# Altium footprint library DIOM4325X250N.PcbLib: 1 footprints
Each footprint in its own frame and in the unit in brackets; x right, y up, seen from the top. Pads: shape width x height; smd on the part's side, far side on the other; paste and mask are expansions set on the pad; w line width, h text height; cw(c..) or ccw(c..) is an arc to the next point about the centre after c.
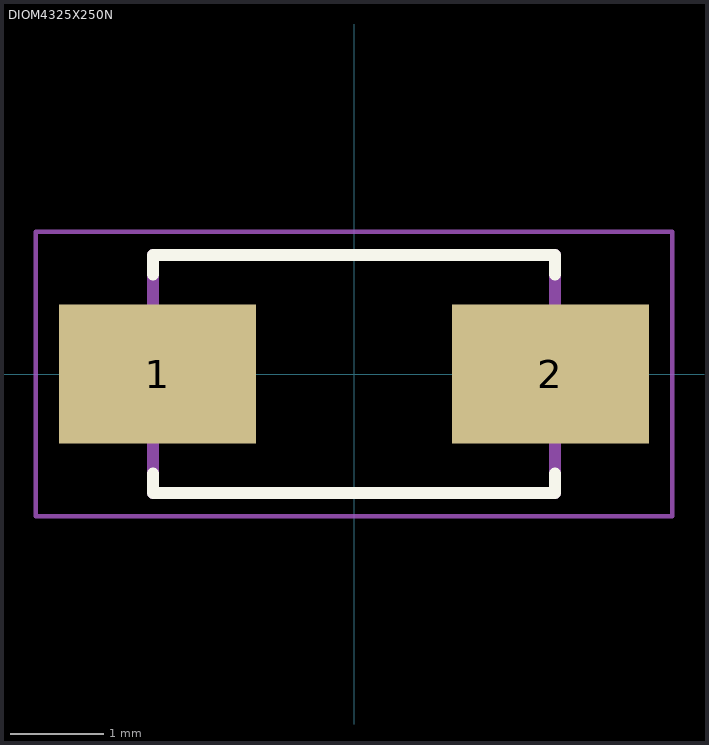
[diagram p0: the footprint, top view; thin cyan lines are the x and y axes]

## DIOM4325X250N [mm]
pads (2):
  rect 2.12x1.5 smd: 1(-2.115,0) 2(2.115,0)
Top Overlay:
  lines w0.127: -2.165,-1.07 -2.165,-1.28 2.165,-1.28 2.165,-1.07 ; -2.165,1.07 -2.165,1.28 2.165,1.28 2.165,1.07
Mechanical 13:
  lines w0.127: -2.165,-1.28 -2.165,1.28 2.165,1.28 2.165,-1.28 -2.165,-1.28
Mechanical 15:
  lines w0.05: -3.425,-1.53 -3.425,1.53 3.425,1.53 3.425,-1.53 -3.425,-1.53
3D body "step_temp.STEP": height 2.5, standoff 0, extent -2.57,-1.28 2.57,1.28